# Altium schematic symbol library Resistor_Film.SchLib: 9 symbols
Pins are listed as number, name and electrical type; pins without a type are passive.

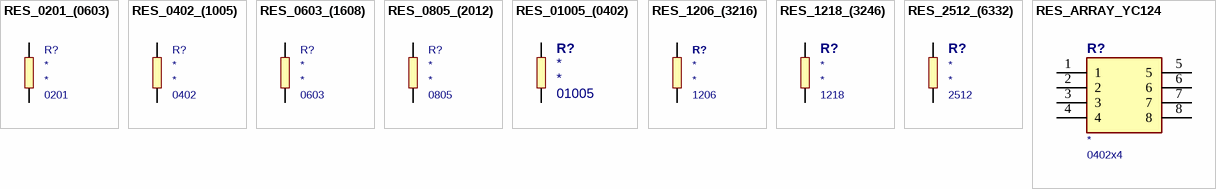
[diagram p0: symbols RES_0201_(0603) to RES_ARRAY_YC124]

## RES_0201_(0603)
designator R?  Package: 0201
RES_0201_(0603); Manufacturer 1: *; Manufacturer Part Number 1: *; Supplier 1: *; Supplier Part Number 1: *; Power: *; Tolerance: *; Resistance: *
footprint RES_0201_(0603)
pins: 1, 2

## RES_0402_(1005)
designator R?  Package: 0402
RES_0402_(1005); Manufacturer 1: *; Manufacturer Part Number 1: *; Supplier 1: *; Supplier Part Number 1: *; Power: *; Tolerance: *; Resistance: *
footprint RES_0402_(1005)
pins: 1, 2

## RES_0603_(1608)
designator R?  Package: 0603
RES_0603_(1608); Manufacturer 1: *; Manufacturer Part Number 1: *; Supplier 1: *; Supplier Part Number 1: *; Power: *; Tolerance: *; Resistance: *
footprint RES_0603_(1608)
pins: 1, 2

## RES_0805_(2012)
designator R?  Package: 0805
RES_0805_(2012); Manufacturer 1: *; Manufacturer Part Number 1: *; Supplier 1: *; Supplier Part Number 1: *; Power: *; Tolerance: *; Resistance: *
footprint RES_0805_(2012)
pins: 1, 2

## RES_01005_(0402)
designator R?  Package: 01005
RES_01005_(0402); Manufacturer 1: *; Manufacturer Part Number 1: *; Supplier 1: *; Supplier Part Number 1: *; Power: *; Tolerance: *; Resistance: *
footprint RES_01005_(0402) (Chip Resistor, 2-Leads, Body 0.40x0.20mm, IPC High Density)
pins: 1, 2

## RES_1206_(3216)
designator R?  Package: 1206
RES_1206_(3216); Manufacturer 1: *; Manufacturer Part Number 1: *; Supplier 1: *; Supplier Part Number 1: *; Power: *; Tolerance: *; Resistance: *
footprint RES_1206_(3216)
pins: 1, 2

## RES_1218_(3246)
designator R?  Package: 1218
RES_1218_(3246); Manufacturer 1: *; Manufacturer Part Number 1: *; Supplier 1: *; Supplier Part Number 1: *; Power: *; Tolerance: *; Resistance: *
footprint RES_1218_(3246)
pins: 1, 2

## RES_2512_(6332)
designator R?  Package: 2512
RES_2512_(6332); Manufacturer 1: *; Manufacturer Part Number 1: *; Supplier 1: *; Supplier Part Number 1: *; Power: *; Tolerance: *; Resistance: *
footprint RES_2512_(6332)
pins: 1, 2

## RES_ARRAY_YC124
designator R?  Package: 0402x4
RES_ARRAY_YC124; Manufacturer 1: *; Manufacturer Part Number 1: *; Supplier 1: *; Supplier Part Number 1: *; Power: *; Tolerance: *; Resistance: *
footprint YC124 (Yageo Array Chip Resistor)
pins: 1, 2, 3, 4, 5, 6, 7, 8